# Altium integrated library National Semiconductor Amplifier.IntLib: 1665 symbols (part 35 of 44)
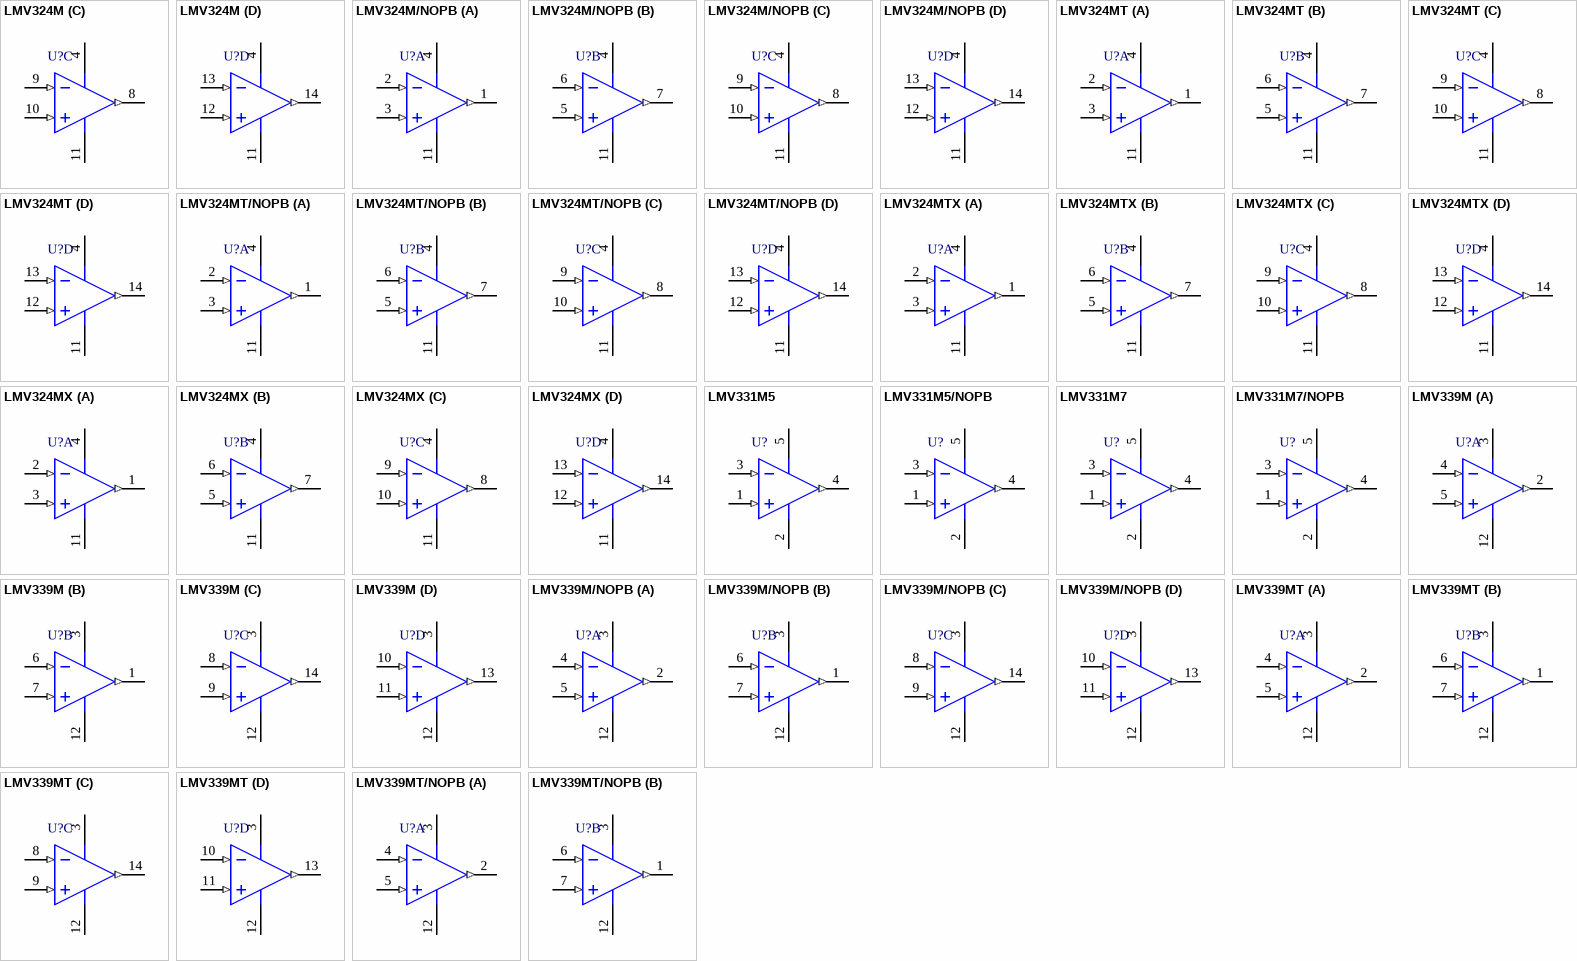
[diagram p118: symbols LMV324M to LMV339MT/NOPB]

## LMV339MT
designator U?
Quad General Purpose, Low Voltage, Tiny Pack Comparator, 14-pin TSSOP; PartNumber: LMV339MT; Manufacturer: National Semiconductor; PackageTopMarking: NSUZXYTT*LMV339*MT; PowerWise: Y; CompType: Amplifiers; DatasheetVersion: May-2007; PackageVersion: revD, Jun-2003; PackageReference: MTC14; PackageDescription: Molded TSSOP, JEDEC, 5 x 4.4 x 0.9mm Body, 14 Lead, 0.65mm Pitch; RoHS: N; PinCount: 14; High-Reliability: Y; Code_JEDEC: MO-153-AB-1; ComponentLink1Description: Manufacturer URL; ComponentLink1URL: http://www.national.com/; ComponentLink2Description: LMV339 Datasheet; ComponentLink2URL: http://www.national.com/ds/LM/LMV339.pdf; ComponentLink3Description: LMV339 Web Page; ComponentLink3URL: http://www.national.com/pf/LM/LMV339.html; ComponentLink4Description: MTC14 Package Page; ComponentLink4URL: http://www.national.com/packaging/folders/mtc14.html
footprint MTC14_N (TSOP, 14-Leads, Body 5x4.4mm, Pitch 0.65mm, IPC Medium Density)
footprint MTC14_L (TSOP, 14-Leads, Body 5x4.4mm, Pitch 0.65mm, IPC High Density)
footprint MTC14_M (TSOP, 14-Leads, Body 5x4.4mm, Pitch 0.65mm, IPC Low Density)
pins on every part: 3 V+ (power), 12 V- (power)
part A pins: 2 OUTA (out), 4 INA- (in), 5 INA+ (in)
part B pins: 1 OUTB (out), 6 INB- (in), 7 INB+ (in)
part C pins: 8 INC- (in), 9 INC+ (in), 14 OUTC (out)
part D pins: 10 IND- (in), 11 IND+ (in), 13 OUTD (out)

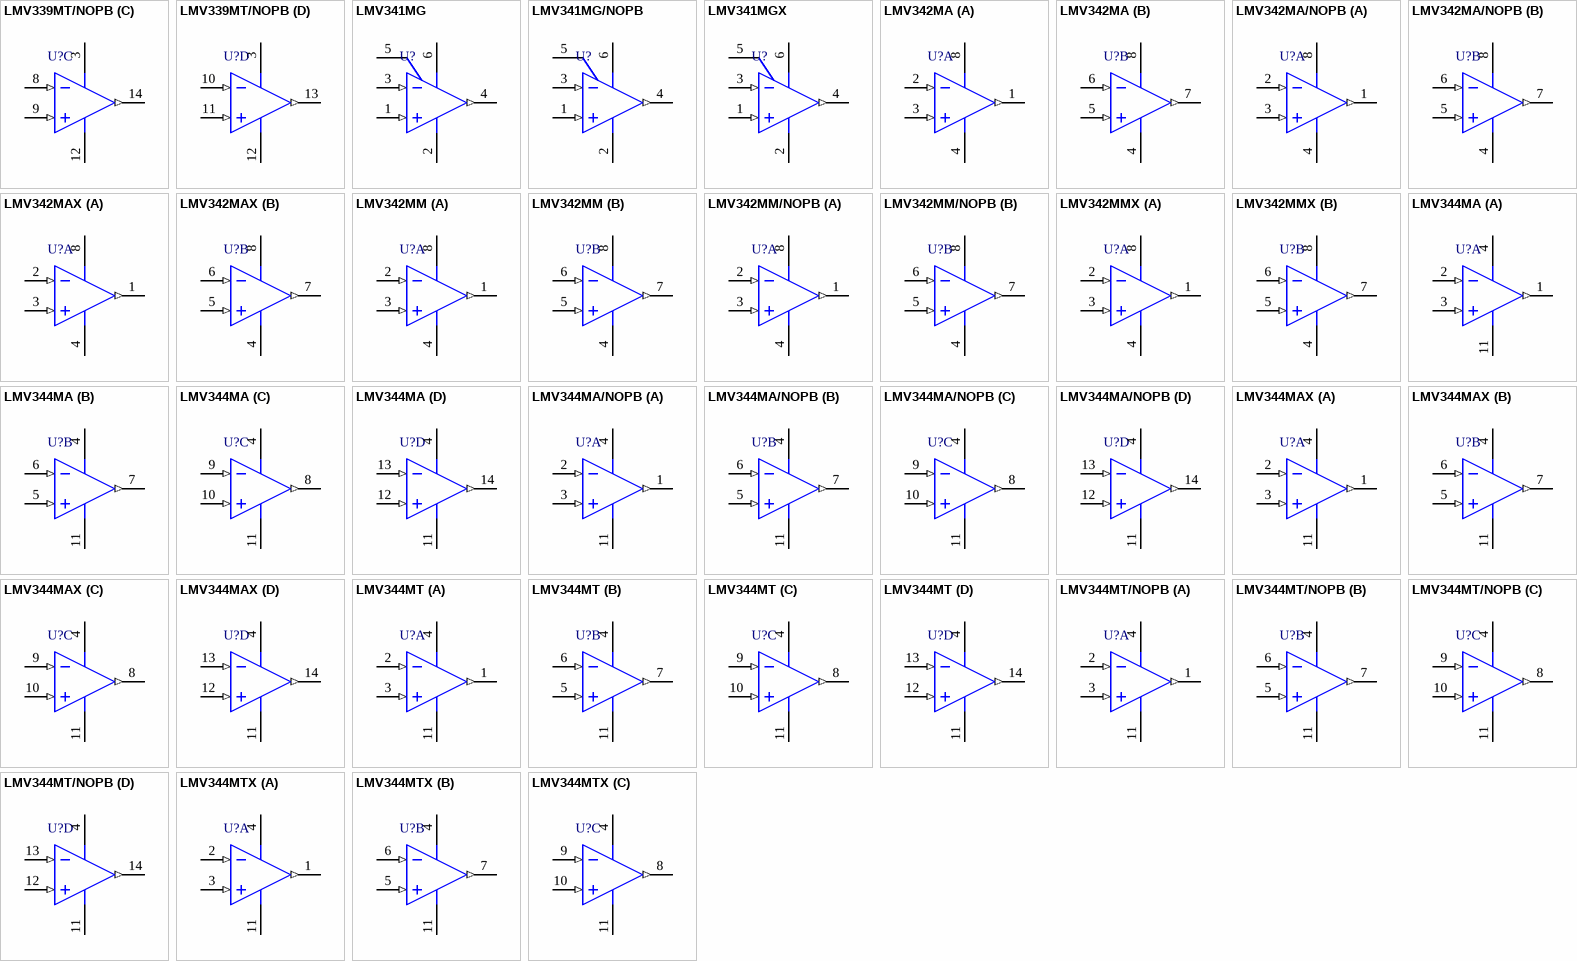
[diagram p67: symbols LMV339MT/NOPB to LMV344MTX]

## LMV339MT/NOPB
designator U?
Quad General Purpose, Low Voltage, Tiny Pack Comparator, 14-pin TSSOP, Pb-Free; PartNumber: LMV339MT/NOPB; Manufacturer: National Semiconductor; PackageTopMarking: NSUZXYTT*LMV339*MT; PowerWise: Y; CompType: Amplifiers; DatasheetVersion: May-2007; PackageVersion: revD, Jun-2003; PackageReference: MTC14; PackageDescription: Molded TSSOP, JEDEC, 5 x 4.4 x 0.9mm Body, 14 Lead, 0.65mm Pitch; RoHS: Y; PinCount: 14; High-Reliability: Y; Code_JEDEC: MO-153-AB-1; ComponentLink1Description: Manufacturer URL; ComponentLink1URL: http://www.national.com/; ComponentLink2Description: LMV339 Datasheet; ComponentLink2URL: http://www.national.com/ds/LM/LMV339.pdf; ComponentLink3Description: LMV339 Web Page; ComponentLink3URL: http://www.national.com/pf/LM/LMV339.html; ComponentLink4Description: MTC14 Package Page; ComponentLink4URL: http://www.national.com/packaging/folders/mtc14.html
footprint MTC14_N (TSOP, 14-Leads, Body 5x4.4mm, Pitch 0.65mm, IPC Medium Density)
footprint MTC14_L (TSOP, 14-Leads, Body 5x4.4mm, Pitch 0.65mm, IPC High Density)
footprint MTC14_M (TSOP, 14-Leads, Body 5x4.4mm, Pitch 0.65mm, IPC Low Density)
pins on every part: 3 V+ (power), 12 V- (power)
part A pins: 2 OUTA (out), 4 INA- (in), 5 INA+ (in)
part B pins: 1 OUTB (out), 6 INB- (in), 7 INB+ (in)
part C pins: 8 INC- (in), 9 INC+ (in), 14 OUTC (out)
part D pins: 10 IND- (in), 11 IND+ (in), 13 OUTD (out)

## LMV341MG
designator U?
Single with Shutdown/Dual/Quad General Purpose, 2.7V, Rail-to-Rail Output, 125°C, Operational Amplifiers, 6-pin SC-70; PartNumber: LMV341MG; Manufacturer: National Semiconductor; PackageTopMarking: A78*XTT; PowerWise: N; High-Reliability: Y; DatasheetVersion: Jan-2008; PackageVersion: revB, Jun-2007; PackageReference: MAA06A; PackageDescription: Molded SC-70, 2 x 1.25 x .9mm, 6 Lead, 0.65mm Pitch; RoHS: N; PinCount: 6; CompType: Amplifiers; ComponentLink1Description: Manufacturer URL; ComponentLink1URL: http://www.national.com/; ComponentLink2Description: LMV341 Datasheet; ComponentLink2URL: http://www.national.com/ds/LM/LMV341.pdf; ComponentLink3Description: LMV341 Web Page; ComponentLink3URL: http://www.national.com/pf/LM/LMV341.html; ComponentLink4Description: MAA06A Package Page; ComponentLink4URL: http://www.national.com/packaging/folders/maa06a.html
footprint MAA06A_N (SOT363, 6-Leads, Body 2x1.3mm, Pitch 0.65mm, Lead Span 2.1mm, IPC Medium Density)
footprint MAA06A_L (SOT363, 6-Leads, Body 2x1.3mm, Pitch 0.65mm, Lead Span 2.1mm, IPC High Density)
footprint MAA06A_M (SOT363, 6-Leads, Body 2x1.3mm, Pitch 0.65mm, Lead Span 2.1mm, IPC Low Density)
pins: 1 IN+ (in), 2 GND (power), 3 IN- (in), 4 OUT (out), 5 ~{SHDN}, 6 V+ (power)

## LMV341MG/NOPB
designator U?
Single with Shutdown/Dual/Quad General Purpose, 2.7V, Rail-to-Rail Output, 125°C, Operational Amplifiers, 6-pin SC-70, Pb-Free; PartNumber: LMV341MG/NOPB; Manufacturer: National Semiconductor; PackageTopMarking: A78*XTT; PowerWise: N; High-Reliability: Y; DatasheetVersion: Jan-2008; PackageVersion: revB, Jun-2007; PackageReference: MAA06A; PackageDescription: Molded SC-70, 2 x 1.25 x .9mm, 6 Lead, 0.65mm Pitch; RoHS: Y; PinCount: 6; CompType: Amplifiers; ComponentLink1Description: Manufacturer URL; ComponentLink1URL: http://www.national.com/; ComponentLink2Description: LMV341 Datasheet; ComponentLink2URL: http://www.national.com/ds/LM/LMV341.pdf; ComponentLink3Description: LMV341 Web Page; ComponentLink3URL: http://www.national.com/pf/LM/LMV341.html; ComponentLink4Description: MAA06A Package Page; ComponentLink4URL: http://www.national.com/packaging/folders/maa06a.html
footprint MAA06A_N (SOT363, 6-Leads, Body 2x1.3mm, Pitch 0.65mm, Lead Span 2.1mm, IPC Medium Density)
footprint MAA06A_L (SOT363, 6-Leads, Body 2x1.3mm, Pitch 0.65mm, Lead Span 2.1mm, IPC High Density)
footprint MAA06A_M (SOT363, 6-Leads, Body 2x1.3mm, Pitch 0.65mm, Lead Span 2.1mm, IPC Low Density)
pins: 1 IN+ (in), 2 GND (power), 3 IN- (in), 4 OUT (out), 5 ~{SHDN}, 6 V+ (power)

## LMV341MGX
designator U?
Single with Shutdown/Dual/Quad General Purpose, 2.7V, Rail-to-Rail Output, 125°C, Operational Amplifiers, 6-pin SC-70; PartNumber: LMV341MGX; Manufacturer: National Semiconductor; PackageTopMarking: A78*XTT; PowerWise: N; High-Reliability: Y; DatasheetVersion: Jan-2008; PackageVersion: revB, Jun-2007; PackageReference: MAA06A; PackageDescription: Molded SC-70, 2 x 1.25 x .9mm, 6 Lead, 0.65mm Pitch; RoHS: N; PinCount: 6; CompType: Amplifiers; ComponentLink1Description: Manufacturer URL; ComponentLink1URL: http://www.national.com/; ComponentLink2Description: LMV341 Datasheet; ComponentLink2URL: http://www.national.com/ds/LM/LMV341.pdf; ComponentLink3Description: LMV341 Web Page; ComponentLink3URL: http://www.national.com/pf/LM/LMV341.html; ComponentLink4Description: MAA06A Package Page; ComponentLink4URL: http://www.national.com/packaging/folders/maa06a.html
footprint MAA06A_N (SOT363, 6-Leads, Body 2x1.3mm, Pitch 0.65mm, Lead Span 2.1mm, IPC Medium Density)
footprint MAA06A_L (SOT363, 6-Leads, Body 2x1.3mm, Pitch 0.65mm, Lead Span 2.1mm, IPC High Density)
footprint MAA06A_M (SOT363, 6-Leads, Body 2x1.3mm, Pitch 0.65mm, Lead Span 2.1mm, IPC Low Density)
pins: 1 IN+ (in), 2 GND (power), 3 IN- (in), 4 OUT (out), 5 ~{SHDN}, 6 V+ (power)

## LMV342MA
designator U?
Single with Shutdown/Dual/Quad General Purpose, 2.7V, Rail-to-Rail Output, 125°C, Operational Amplifiers, 8-pin Narrow SOIC; PartNumber: LMV342MA; Manufacturer: National Semiconductor; PackageTopMarking: NSZXTT*LMV34*2MA; PowerWise: N; High-Reliability: Y; DatasheetVersion: Jan-2008; PackageVersion: revM, May-2009; PackageReference: M08A; PackageDescription: SOIC Narrow, 4.9 x 3.9 x 1.45mm, 8 Lead, 1.27mm Pitch; RoHS: N; PinCount: 8; CompType: Amplifiers; Code_JEDEC: MS-012-AA; Code_IPC: SOIC127P600-8; ComponentLink1Description: Manufacturer URL; ComponentLink1URL: http://www.national.com/; ComponentLink2Description: LMV342 Datasheet; ComponentLink2URL: http://www.national.com/ds/LM/LMV342.pdf; ComponentLink3Description: LMV342 Web Page; ComponentLink3URL: http://www.national.com/pf/LM/LMV342.html; ComponentLink4Description: M08A Package Page; ComponentLink4URL: http://www.national.com/packaging/folders/m08a.html
footprint M08A_N (SOIC, 8-Leads, Body 4.9x3.9mm, Pitch 1.27mm, IPC Medium Density)
footprint M08A_L (SOIC, 8-Leads, Body 4.9x3.9mm, Pitch 1.27mm, IPC High Density)
footprint M08A_M (SOIC, 8-Leads, Body 4.9x3.9mm, Pitch 1.27mm, IPC Low Density)
pins on every part: 4 V- (power), 8 V+ (power)
part A pins: 1 OUTA (out), 2 INA- (in), 3 INA+ (in)
part B pins: 5 INB+ (in), 6 INB- (in), 7 OUTB (out)

## LMV342MA/NOPB
designator U?
Single with Shutdown/Dual/Quad General Purpose, 2.7V, Rail-to-Rail Output, 125°C, Operational Amplifiers, 8-pin Narrow SOIC, Pb-Free; PartNumber: LMV342MA/NOPB; Manufacturer: National Semiconductor; PackageTopMarking: NSZXTT*LMV34*2MA; PowerWise: N; High-Reliability: Y; DatasheetVersion: Jan-2008; PackageVersion: revM, May-2009; PackageReference: M08A; PackageDescription: SOIC Narrow, 4.9 x 3.9 x 1.45mm, 8 Lead, 1.27mm Pitch; RoHS: Y; PinCount: 8; CompType: Amplifiers; Code_JEDEC: MS-012-AA; Code_IPC: SOIC127P600-8; ComponentLink1Description: Manufacturer URL; ComponentLink1URL: http://www.national.com/; ComponentLink2Description: LMV342 Datasheet; ComponentLink2URL: http://www.national.com/ds/LM/LMV342.pdf; ComponentLink3Description: LMV342 Web Page; ComponentLink3URL: http://www.national.com/pf/LM/LMV342.html; ComponentLink4Description: M08A Package Page; ComponentLink4URL: http://www.national.com/packaging/folders/m08a.html
footprint M08A_N (SOIC, 8-Leads, Body 4.9x3.9mm, Pitch 1.27mm, IPC Medium Density)
footprint M08A_L (SOIC, 8-Leads, Body 4.9x3.9mm, Pitch 1.27mm, IPC High Density)
footprint M08A_M (SOIC, 8-Leads, Body 4.9x3.9mm, Pitch 1.27mm, IPC Low Density)
pins on every part: 4 V- (power), 8 V+ (power)
part A pins: 1 OUTA (out), 2 INA- (in), 3 INA+ (in)
part B pins: 5 INB+ (in), 6 INB- (in), 7 OUTB (out)

## LMV342MAX
designator U?
Single with Shutdown/Dual/Quad General Purpose, 2.7V, Rail-to-Rail Output, 125°C, Operational Amplifiers, 8-pin Narrow SOIC; PartNumber: LMV342MAX; Manufacturer: National Semiconductor; PackageTopMarking: NSZXTT*LMV34*2MA; PowerWise: N; High-Reliability: Y; DatasheetVersion: Jan-2008; PackageVersion: revM, May-2009; PackageReference: M08A; PackageDescription: SOIC Narrow, 4.9 x 3.9 x 1.45mm, 8 Lead, 1.27mm Pitch; RoHS: N; PinCount: 8; CompType: Amplifiers; Code_JEDEC: MS-012-AA; Code_IPC: SOIC127P600-8; ComponentLink1Description: Manufacturer URL; ComponentLink1URL: http://www.national.com/; ComponentLink2Description: LMV342 Datasheet; ComponentLink2URL: http://www.national.com/ds/LM/LMV342.pdf; ComponentLink3Description: LMV342 Web Page; ComponentLink3URL: http://www.national.com/pf/LM/LMV342.html; ComponentLink4Description: M08A Package Page; ComponentLink4URL: http://www.national.com/packaging/folders/m08a.html
footprint M08A_N (SOIC, 8-Leads, Body 4.9x3.9mm, Pitch 1.27mm, IPC Medium Density)
footprint M08A_L (SOIC, 8-Leads, Body 4.9x3.9mm, Pitch 1.27mm, IPC High Density)
footprint M08A_M (SOIC, 8-Leads, Body 4.9x3.9mm, Pitch 1.27mm, IPC Low Density)
pins on every part: 4 V- (power), 8 V+ (power)
part A pins: 1 OUTA (out), 2 INA- (in), 3 INA+ (in)
part B pins: 5 INB+ (in), 6 INB- (in), 7 OUTB (out)

## LMV342MM
designator U?
Single with Shutdown/Dual/Quad General Purpose, 2.7V, Rail-to-Rail Output, 125°C, Operational Amplifiers, 8-pin Mini SOIC; PartNumber: LMV342MM; Manufacturer: National Semiconductor; PackageTopMarking: ZXTT*A82A; PowerWise: N; High-Reliability: Y; DatasheetVersion: Jan-2008; PackageVersion: revF, Apr-2008; PackageReference: MUA08A; PackageDescription: MINI SOIC, .118 x .118 x .034in, 8 Lead, .0256in Pitch; RoHS: N; PinCount: 8; CompType: Amplifiers; Code_JEDEC: MO-187-AA; ComponentLink1Description: Manufacturer URL; ComponentLink1URL: http://www.national.com/; ComponentLink2Description: LMV342 Datasheet; ComponentLink2URL: http://www.national.com/ds/LM/LMV342.pdf; ComponentLink3Description: LMV342 Web Page; ComponentLink3URL: http://www.national.com/pf/LM/LMV342.html; ComponentLink4Description: MUA08A Package Page; ComponentLink4URL: http://www.national.com/packaging/folders/mua08a.html
footprint MUA08A_N (TSOP, 8-Leads, Body 3x3mm, Pitch 0.65mm, IPC Medium Density)
footprint MUA08A_L (TSOP, 8-Leads, Body 3x3mm, Pitch 0.65mm, IPC High Density)
footprint MUA08A_M (TSOP, 8-Leads, Body 3x3mm, Pitch 0.65mm, IPC Low Density)
pins on every part: 4 V- (power), 8 V+ (power)
part A pins: 1 OUTA (out), 2 INA- (in), 3 INA+ (in)
part B pins: 5 INB+ (in), 6 INB- (in), 7 OUTB (out)

## LMV342MM/NOPB
designator U?
Single with Shutdown/Dual/Quad General Purpose, 2.7V, Rail-to-Rail Output, 125°C, Operational Amplifiers, 8-pin Mini SOIC, Pb-Free; PartNumber: LMV342MM/NOPB; Manufacturer: National Semiconductor; PackageTopMarking: ZXTT*A82A; PowerWise: N; High-Reliability: Y; DatasheetVersion: Jan-2008; PackageVersion: revF, Apr-2008; PackageReference: MUA08A; PackageDescription: MINI SOIC, .118 x .118 x .034in, 8 Lead, .0256in Pitch; RoHS: Y; PinCount: 8; CompType: Amplifiers; Code_JEDEC: MO-187-AA; ComponentLink1Description: Manufacturer URL; ComponentLink1URL: http://www.national.com/; ComponentLink2Description: LMV342 Datasheet; ComponentLink2URL: http://www.national.com/ds/LM/LMV342.pdf; ComponentLink3Description: LMV342 Web Page; ComponentLink3URL: http://www.national.com/pf/LM/LMV342.html; ComponentLink4Description: MUA08A Package Page; ComponentLink4URL: http://www.national.com/packaging/folders/mua08a.html
footprint MUA08A_N (TSOP, 8-Leads, Body 3x3mm, Pitch 0.65mm, IPC Medium Density)
footprint MUA08A_L (TSOP, 8-Leads, Body 3x3mm, Pitch 0.65mm, IPC High Density)
footprint MUA08A_M (TSOP, 8-Leads, Body 3x3mm, Pitch 0.65mm, IPC Low Density)
pins on every part: 4 V- (power), 8 V+ (power)
part A pins: 1 OUTA (out), 2 INA- (in), 3 INA+ (in)
part B pins: 5 INB+ (in), 6 INB- (in), 7 OUTB (out)

## LMV342MMX
designator U?
Single with Shutdown/Dual/Quad General Purpose, 2.7V, Rail-to-Rail Output, 125°C, Operational Amplifiers, 8-pin Mini SOIC; PartNumber: LMV342MMX; Manufacturer: National Semiconductor; PackageTopMarking: ZXTT*A82A; PowerWise: N; High-Reliability: Y; DatasheetVersion: Jan-2008; PackageVersion: revF, Apr-2008; PackageReference: MUA08A; PackageDescription: MINI SOIC, .118 x .118 x .034in, 8 Lead, .0256in Pitch; RoHS: N; PinCount: 8; CompType: Amplifiers; Code_JEDEC: MO-187-AA; ComponentLink1Description: Manufacturer URL; ComponentLink1URL: http://www.national.com/; ComponentLink2Description: LMV342 Datasheet; ComponentLink2URL: http://www.national.com/ds/LM/LMV342.pdf; ComponentLink3Description: LMV342 Web Page; ComponentLink3URL: http://www.national.com/pf/LM/LMV342.html; ComponentLink4Description: MUA08A Package Page; ComponentLink4URL: http://www.national.com/packaging/folders/mua08a.html
footprint MUA08A_N (TSOP, 8-Leads, Body 3x3mm, Pitch 0.65mm, IPC Medium Density)
footprint MUA08A_L (TSOP, 8-Leads, Body 3x3mm, Pitch 0.65mm, IPC High Density)
footprint MUA08A_M (TSOP, 8-Leads, Body 3x3mm, Pitch 0.65mm, IPC Low Density)
pins on every part: 4 V- (power), 8 V+ (power)
part A pins: 1 OUTA (out), 2 INA- (in), 3 INA+ (in)
part B pins: 5 INB+ (in), 6 INB- (in), 7 OUTB (out)

## LMV344MA
designator U?
Single with Shutdown/Dual/Quad General Purpose, 2.7V,Rail-to-Rail Output, 125°C, Operational Amplifiers, 14-pin Narrow SOIC; PartNumber: LMV344MA; Manufacturer: National Semiconductor; PackageTopMarking: NSUZXYTTE#*LMV344MA; PowerWise: N; High-Reliability: Y; DatasheetVersion: Jan-2008; PackageVersion: revJ, Jan-1996; PackageReference: M14A; PackageDescription: Molded Package S.O., .150in Wide, 14 Lead; RoHS: N; PinCount: 14; CompType: Amplifiers; Code_JEDEC: MS-012AB; Code_IPC: SOIC127P600-14; ComponentLink1Description: Manufacturer URL; ComponentLink1URL: http://www.national.com/; ComponentLink2Description: LMV344 Datasheet; ComponentLink2URL: http://www.national.com/ds/LM/LMV344.pdf; ComponentLink3Description: LMV344 Web Page; ComponentLink3URL: http://www.national.com/pf/LM/LMV344.html; ComponentLink4Description: M14A Package Page; ComponentLink4URL: http://www.national.com/packaging/folders/m14a.html
footprint M14A_N (SOIC, 14-Leads, Body 8.6x3.9mm, Pitch 1.27mm, IPC Medium Density)
footprint M14A_L (SOIC, 14-Leads, Body 8.6x3.9mm, Pitch 1.27mm, IPC High Density)
footprint M14A_M (SOIC, 14-Leads, Body 8.6x3.9mm, Pitch 1.27mm, IPC Low Density)
pins on every part: 4 V+ (power), 11 V- (power)
part A pins: 1 OUTA (out), 2 INA- (in), 3 INA+ (in)
part B pins: 5 INB+ (in), 6 INB- (in), 7 OUTB (out)
part C pins: 8 OUTC (out), 9 INC- (in), 10 INC+ (in)
part D pins: 12 IND+ (in), 13 IND- (in), 14 OUTD (out)

## LMV344MA/NOPB
designator U?
Single with Shutdown/Dual/Quad General Purpose, 2.7V,Rail-to-Rail Output, 125°C, Operational Amplifiers, 14-pin Narrow SOIC, Pb-Free; PartNumber: LMV344MA/NOPB; Manufacturer: National Semiconductor; PackageTopMarking: NSUZXYTTE#*LMV344MA; PowerWise: N; High-Reliability: Y; DatasheetVersion: Jan-2008; PackageVersion: revJ, Jan-1996; PackageReference: M14A; PackageDescription: Molded Package S.O., .150in Wide, 14 Lead; RoHS: Y; PinCount: 14; CompType: Amplifiers; Code_JEDEC: MS-012AB; Code_IPC: SOIC127P600-14; ComponentLink1Description: Manufacturer URL; ComponentLink1URL: http://www.national.com/; ComponentLink2Description: LMV344 Datasheet; ComponentLink2URL: http://www.national.com/ds/LM/LMV344.pdf; ComponentLink3Description: LMV344 Web Page; ComponentLink3URL: http://www.national.com/pf/LM/LMV344.html; ComponentLink4Description: M14A Package Page; ComponentLink4URL: http://www.national.com/packaging/folders/m14a.html
footprint M14A_N (SOIC, 14-Leads, Body 8.6x3.9mm, Pitch 1.27mm, IPC Medium Density)
footprint M14A_L (SOIC, 14-Leads, Body 8.6x3.9mm, Pitch 1.27mm, IPC High Density)
footprint M14A_M (SOIC, 14-Leads, Body 8.6x3.9mm, Pitch 1.27mm, IPC Low Density)
pins on every part: 4 V+ (power), 11 V- (power)
part A pins: 1 OUTA (out), 2 INA- (in), 3 INA+ (in)
part B pins: 5 INB+ (in), 6 INB- (in), 7 OUTB (out)
part C pins: 8 OUTC (out), 9 INC- (in), 10 INC+ (in)
part D pins: 12 IND+ (in), 13 IND- (in), 14 OUTD (out)

## LMV344MAX
designator U?
Single with Shutdown/Dual/Quad General Purpose, 2.7V,Rail-to-Rail Output, 125°C, Operational Amplifiers, 14-pin Narrow SOIC; PartNumber: LMV344MAX; Manufacturer: National Semiconductor; PackageTopMarking: NSUZXYTTE#*LMV344MA; PowerWise: N; High-Reliability: Y; DatasheetVersion: Jan-2008; PackageVersion: revJ, Jan-1996; PackageReference: M14A; PackageDescription: Molded Package S.O., .150in Wide, 14 Lead; RoHS: N; PinCount: 14; CompType: Amplifiers; Code_JEDEC: MS-012AB; Code_IPC: SOIC127P600-14; ComponentLink1Description: Manufacturer URL; ComponentLink1URL: http://www.national.com/; ComponentLink2Description: LMV344 Datasheet; ComponentLink2URL: http://www.national.com/ds/LM/LMV344.pdf; ComponentLink3Description: LMV344 Web Page; ComponentLink3URL: http://www.national.com/pf/LM/LMV344.html; ComponentLink4Description: M14A Package Page; ComponentLink4URL: http://www.national.com/packaging/folders/m14a.html
footprint M14A_N (SOIC, 14-Leads, Body 8.6x3.9mm, Pitch 1.27mm, IPC Medium Density)
footprint M14A_L (SOIC, 14-Leads, Body 8.6x3.9mm, Pitch 1.27mm, IPC High Density)
footprint M14A_M (SOIC, 14-Leads, Body 8.6x3.9mm, Pitch 1.27mm, IPC Low Density)
pins on every part: 4 V+ (power), 11 V- (power)
part A pins: 1 OUTA (out), 2 INA- (in), 3 INA+ (in)
part B pins: 5 INB+ (in), 6 INB- (in), 7 OUTB (out)
part C pins: 8 OUTC (out), 9 INC- (in), 10 INC+ (in)
part D pins: 12 IND+ (in), 13 IND- (in), 14 OUTD (out)

## LMV344MT
designator U?
Single with Shutdown/Dual/Quad General Purpose, 2.7V,Rail-to-Rail Output, 125°C, Operational Amplifiers, 14-pin TSSOP; PartNumber: LMV344MT; Manufacturer: National Semiconductor; PackageTopMarking: NSZXYTT*LMV34*4MT; PowerWise: N; High-Reliability: Y; DatasheetVersion: Jan-2008; PackageVersion: revD, Jun-2003; PackageReference: MTC14; PackageDescription: Molded TSSOP, JEDEC, 5 x 4.4 x 0.9mm Body, 14 Lead, 0.65mm Pitch; RoHS: N; PinCount: 14; CompType: Amplifiers; Code_JEDEC: MO-153-AB-1; ComponentLink1Description: Manufacturer URL; ComponentLink1URL: http://www.national.com/; ComponentLink2Description: LMV344 Datasheet; ComponentLink2URL: http://www.national.com/ds/LM/LMV344.pdf; ComponentLink3Description: LMV344 Web Page; ComponentLink3URL: http://www.national.com/pf/LM/LMV344.html; ComponentLink4Description: MTC14 Package Page; ComponentLink4URL: http://www.national.com/packaging/folders/mtc14.html
footprint MTC14_N (TSOP, 14-Leads, Body 5x4.4mm, Pitch 0.65mm, IPC Medium Density)
footprint MTC14_L (TSOP, 14-Leads, Body 5x4.4mm, Pitch 0.65mm, IPC High Density)
footprint MTC14_M (TSOP, 14-Leads, Body 5x4.4mm, Pitch 0.65mm, IPC Low Density)
pins on every part: 4 V+ (power), 11 V- (power)
part A pins: 1 OUTA (out), 2 INA- (in), 3 INA+ (in)
part B pins: 5 INB+ (in), 6 INB- (in), 7 OUTB (out)
part C pins: 8 OUTC (out), 9 INC- (in), 10 INC+ (in)
part D pins: 12 IND+ (in), 13 IND- (in), 14 OUTD (out)

## LMV344MT/NOPB
designator U?
Single with Shutdown/Dual/Quad General Purpose, 2.7V,Rail-to-Rail Output, 125°C, Operational Amplifiers, 14-pin TSSOP, Pb-Free; PartNumber: LMV344MT/NOPB; Manufacturer: National Semiconductor; PackageTopMarking: NSZXYTT*LMV34*4MT; PowerWise: N; High-Reliability: Y; DatasheetVersion: Jan-2008; PackageVersion: revD, Jun-2003; PackageReference: MTC14; PackageDescription: Molded TSSOP, JEDEC, 5 x 4.4 x 0.9mm Body, 14 Lead, 0.65mm Pitch; RoHS: Y; PinCount: 14; CompType: Amplifiers; Code_JEDEC: MO-153-AB-1; ComponentLink1Description: Manufacturer URL; ComponentLink1URL: http://www.national.com/; ComponentLink2Description: LMV344 Datasheet; ComponentLink2URL: http://www.national.com/ds/LM/LMV344.pdf; ComponentLink3Description: LMV344 Web Page; ComponentLink3URL: http://www.national.com/pf/LM/LMV344.html; ComponentLink4Description: MTC14 Package Page; ComponentLink4URL: http://www.national.com/packaging/folders/mtc14.html
footprint MTC14_N (TSOP, 14-Leads, Body 5x4.4mm, Pitch 0.65mm, IPC Medium Density)
footprint MTC14_L (TSOP, 14-Leads, Body 5x4.4mm, Pitch 0.65mm, IPC High Density)
footprint MTC14_M (TSOP, 14-Leads, Body 5x4.4mm, Pitch 0.65mm, IPC Low Density)
pins on every part: 4 V+ (power), 11 V- (power)
part A pins: 1 OUTA (out), 2 INA- (in), 3 INA+ (in)
part B pins: 5 INB+ (in), 6 INB- (in), 7 OUTB (out)
part C pins: 8 OUTC (out), 9 INC- (in), 10 INC+ (in)
part D pins: 12 IND+ (in), 13 IND- (in), 14 OUTD (out)

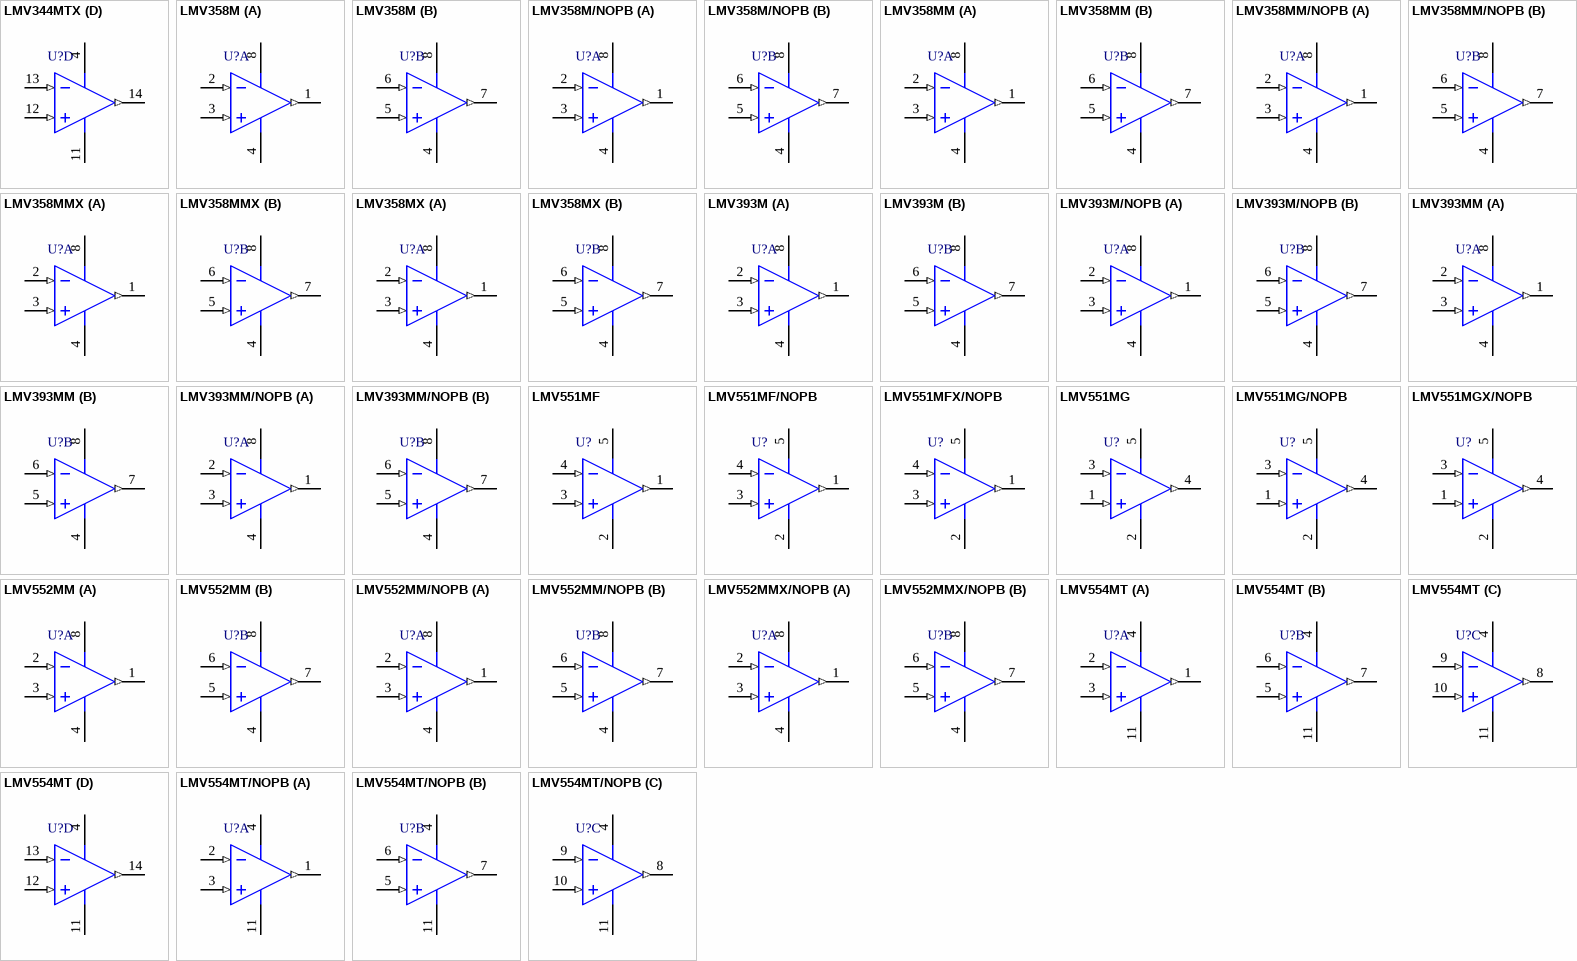
[diagram p68: symbols LMV344MTX to LMV554MT/NOPB]

## LMV344MTX
designator U?
Single with Shutdown/Dual/Quad General Purpose, 2.7V,Rail-to-Rail Output, 125°C, Operational Amplifiers, 14-pin TSSOP; PartNumber: LMV344MTX; Manufacturer: National Semiconductor; PackageTopMarking: NSZXYTT*LMV34*4MT; PowerWise: N; High-Reliability: Y; DatasheetVersion: Jan-2008; PackageVersion: revD, Jun-2003; PackageReference: MTC14; PackageDescription: Molded TSSOP, JEDEC, 5 x 4.4 x 0.9mm Body, 14 Lead, 0.65mm Pitch; RoHS: N; PinCount: 14; CompType: Amplifiers; Code_JEDEC: MO-153-AB-1; ComponentLink1Description: Manufacturer URL; ComponentLink1URL: http://www.national.com/; ComponentLink2Description: LMV344 Datasheet; ComponentLink2URL: http://www.national.com/ds/LM/LMV344.pdf; ComponentLink3Description: LMV344 Web Page; ComponentLink3URL: http://www.national.com/pf/LM/LMV344.html; ComponentLink4Description: MTC14 Package Page; ComponentLink4URL: http://www.national.com/packaging/folders/mtc14.html
footprint MTC14_N (TSOP, 14-Leads, Body 5x4.4mm, Pitch 0.65mm, IPC Medium Density)
footprint MTC14_L (TSOP, 14-Leads, Body 5x4.4mm, Pitch 0.65mm, IPC High Density)
footprint MTC14_M (TSOP, 14-Leads, Body 5x4.4mm, Pitch 0.65mm, IPC Low Density)
pins on every part: 4 V+ (power), 11 V- (power)
part A pins: 1 OUTA (out), 2 INA- (in), 3 INA+ (in)
part B pins: 5 INB+ (in), 6 INB- (in), 7 OUTB (out)
part C pins: 8 OUTC (out), 9 INC- (in), 10 INC+ (in)
part D pins: 12 IND+ (in), 13 IND- (in), 14 OUTD (out)

## LMV358M
designator U?
General Purpose, Low Voltage, Rail-to-Rail Output Operational Amplifiers, 8-pin Narrow SOIC; PartNumber: LMV358M; Manufacturer: National Semiconductor; PackageTopMarking: NSZXTT*LMV*358M; PowerWise: N; High-Reliability: Y; DatasheetVersion: Sep-2009; PackageVersion: revM, May-2009; PackageReference: M08A; PackageDescription: SOIC Narrow, 4.9 x 3.9 x 1.45mm, 8 Lead, 1.27mm Pitch; RoHS: N; PinCount: 8; CompType: Amplifiers; Code_JEDEC: MS-012-AA; Code_IPC: SOIC127P600-8; ComponentLink1Description: Manufacturer URL; ComponentLink1URL: http://www.national.com/; ComponentLink2Description: LMV358 Datasheet; ComponentLink2URL: http://www.national.com/ds/LM/LMV358.pdf; ComponentLink3Description: LMV358 Web Page; ComponentLink3URL: http://www.national.com/pf/LM/LMV358.html; ComponentLink4Description: M08A Package Page; ComponentLink4URL: http://www.national.com/packaging/folders/m08a.html
footprint M08A_N (SOIC, 8-Leads, Body 4.9x3.9mm, Pitch 1.27mm, IPC Medium Density)
footprint M08A_L (SOIC, 8-Leads, Body 4.9x3.9mm, Pitch 1.27mm, IPC High Density)
footprint M08A_M (SOIC, 8-Leads, Body 4.9x3.9mm, Pitch 1.27mm, IPC Low Density)
pins on every part: 4 V- (power), 8 V+ (power)
part A pins: 1 OUTA (out), 2 INA- (in), 3 INA+ (in)
part B pins: 5 INB+ (in), 6 INB- (in), 7 OUTB (out)

## LMV358M/NOPB
designator U?
General Purpose, Low Voltage, Rail-to-Rail Output Operational Amplifiers, 8-pin Narrow SOIC, Pb-Free; PartNumber: LMV358M/NOPB; Manufacturer: National Semiconductor; PackageTopMarking: NSZXTT*LMV*358M; PowerWise: N; High-Reliability: Y; DatasheetVersion: Sep-2009; PackageVersion: revM, May-2009; PackageReference: M08A; PackageDescription: SOIC Narrow, 4.9 x 3.9 x 1.45mm, 8 Lead, 1.27mm Pitch; RoHS: Y; PinCount: 8; CompType: Amplifiers; Code_JEDEC: MS-012-AA; Code_IPC: SOIC127P600-8; ComponentLink1Description: Manufacturer URL; ComponentLink1URL: http://www.national.com/; ComponentLink2Description: LMV358 Datasheet; ComponentLink2URL: http://www.national.com/ds/LM/LMV358.pdf; ComponentLink3Description: LMV358 Web Page; ComponentLink3URL: http://www.national.com/pf/LM/LMV358.html; ComponentLink4Description: M08A Package Page; ComponentLink4URL: http://www.national.com/packaging/folders/m08a.html
footprint M08A_N (SOIC, 8-Leads, Body 4.9x3.9mm, Pitch 1.27mm, IPC Medium Density)
footprint M08A_L (SOIC, 8-Leads, Body 4.9x3.9mm, Pitch 1.27mm, IPC High Density)
footprint M08A_M (SOIC, 8-Leads, Body 4.9x3.9mm, Pitch 1.27mm, IPC Low Density)
pins on every part: 4 V- (power), 8 V+ (power)
part A pins: 1 OUTA (out), 2 INA- (in), 3 INA+ (in)
part B pins: 5 INB+ (in), 6 INB- (in), 7 OUTB (out)

## LMV358MM
designator U?
General Purpose, Low Voltage, Rail-to-Rail Output Operational Amplifiers, 8-pin Mini SOIC; PartNumber: LMV358MM; Manufacturer: National Semiconductor; PackageTopMarking: ZXTT*V358; PowerWise: N; High-Reliability: Y; DatasheetVersion: Sep-2009; PackageVersion: revF, Apr-2008; PackageReference: MUA08A; PackageDescription: MINI SOIC, .118 x .118 x .034in, 8 Lead, .0256in Pitch; RoHS: N; PinCount: 8; CompType: Amplifiers; Code_JEDEC: MO-187-AA; ComponentLink1Description: Manufacturer URL; ComponentLink1URL: http://www.national.com/; ComponentLink2Description: LMV358 Datasheet; ComponentLink2URL: http://www.national.com/ds/LM/LMV358.pdf; ComponentLink3Description: LMV358 Web Page; ComponentLink3URL: http://www.national.com/pf/LM/LMV358.html; ComponentLink4Description: MUA08A Package Page; ComponentLink4URL: http://www.national.com/packaging/folders/mua08a.html
footprint MUA08A_N (TSOP, 8-Leads, Body 3x3mm, Pitch 0.65mm, IPC Medium Density)
footprint MUA08A_L (TSOP, 8-Leads, Body 3x3mm, Pitch 0.65mm, IPC High Density)
footprint MUA08A_M (TSOP, 8-Leads, Body 3x3mm, Pitch 0.65mm, IPC Low Density)
pins on every part: 4 V- (power), 8 V+ (power)
part A pins: 1 OUTA (out), 2 INA- (in), 3 INA+ (in)
part B pins: 5 INB+ (in), 6 INB- (in), 7 OUTB (out)

## LMV358MM/NOPB
designator U?
General Purpose, Low Voltage, Rail-to-Rail Output Operational Amplifiers, 8-pin Mini SOIC, Pb-Free; PartNumber: LMV358MM/NOPB; Manufacturer: National Semiconductor; PackageTopMarking: ZXTT*V358; PowerWise: N; High-Reliability: Y; DatasheetVersion: Sep-2009; PackageVersion: revF, Apr-2008; PackageReference: MUA08A; PackageDescription: MINI SOIC, .118 x .118 x .034in, 8 Lead, .0256in Pitch; RoHS: Y; PinCount: 8; CompType: Amplifiers; Code_JEDEC: MO-187-AA; ComponentLink1Description: Manufacturer URL; ComponentLink1URL: http://www.national.com/; ComponentLink2Description: LMV358 Datasheet; ComponentLink2URL: http://www.national.com/ds/LM/LMV358.pdf; ComponentLink3Description: LMV358 Web Page; ComponentLink3URL: http://www.national.com/pf/LM/LMV358.html; ComponentLink4Description: MUA08A Package Page; ComponentLink4URL: http://www.national.com/packaging/folders/mua08a.html
footprint MUA08A_N (TSOP, 8-Leads, Body 3x3mm, Pitch 0.65mm, IPC Medium Density)
footprint MUA08A_L (TSOP, 8-Leads, Body 3x3mm, Pitch 0.65mm, IPC High Density)
footprint MUA08A_M (TSOP, 8-Leads, Body 3x3mm, Pitch 0.65mm, IPC Low Density)
pins on every part: 4 V- (power), 8 V+ (power)
part A pins: 1 OUTA (out), 2 INA- (in), 3 INA+ (in)
part B pins: 5 INB+ (in), 6 INB- (in), 7 OUTB (out)

## LMV358MMX
designator U?
General Purpose, Low Voltage, Rail-to-Rail Output Operational Amplifiers, 8-pin Mini SOIC; PartNumber: LMV358MMX; Manufacturer: National Semiconductor; PackageTopMarking: ZXTT*V358; PowerWise: N; High-Reliability: Y; DatasheetVersion: Sep-2009; PackageVersion: revF, Apr-2008; PackageReference: MUA08A; PackageDescription: MINI SOIC, .118 x .118 x .034in, 8 Lead, .0256in Pitch; RoHS: N; PinCount: 8; CompType: Amplifiers; Code_JEDEC: MO-187-AA; ComponentLink1Description: Manufacturer URL; ComponentLink1URL: http://www.national.com/; ComponentLink2Description: LMV358 Datasheet; ComponentLink2URL: http://www.national.com/ds/LM/LMV358.pdf; ComponentLink3Description: LMV358 Web Page; ComponentLink3URL: http://www.national.com/pf/LM/LMV358.html; ComponentLink4Description: MUA08A Package Page; ComponentLink4URL: http://www.national.com/packaging/folders/mua08a.html
footprint MUA08A_N (TSOP, 8-Leads, Body 3x3mm, Pitch 0.65mm, IPC Medium Density)
footprint MUA08A_L (TSOP, 8-Leads, Body 3x3mm, Pitch 0.65mm, IPC High Density)
footprint MUA08A_M (TSOP, 8-Leads, Body 3x3mm, Pitch 0.65mm, IPC Low Density)
pins on every part: 4 V- (power), 8 V+ (power)
part A pins: 1 OUTA (out), 2 INA- (in), 3 INA+ (in)
part B pins: 5 INB+ (in), 6 INB- (in), 7 OUTB (out)

## LMV358MX
designator U?
General Purpose, Low Voltage, Rail-to-Rail Output Operational Amplifiers, 8-pin Narrow SOIC; PartNumber: LMV358MX; Manufacturer: National Semiconductor; PackageTopMarking: NSZXTT*LMV*358M; PowerWise: N; High-Reliability: Y; DatasheetVersion: Sep-2009; PackageVersion: revM, May-2009; PackageReference: M08A; PackageDescription: SOIC Narrow, 4.9 x 3.9 x 1.45mm, 8 Lead, 1.27mm Pitch; RoHS: N; PinCount: 8; CompType: Amplifiers; Code_JEDEC: MS-012-AA; Code_IPC: SOIC127P600-8; ComponentLink1Description: Manufacturer URL; ComponentLink1URL: http://www.national.com/; ComponentLink2Description: LMV358 Datasheet; ComponentLink2URL: http://www.national.com/ds/LM/LMV358.pdf; ComponentLink3Description: LMV358 Web Page; ComponentLink3URL: http://www.national.com/pf/LM/LMV358.html; ComponentLink4Description: M08A Package Page; ComponentLink4URL: http://www.national.com/packaging/folders/m08a.html
footprint M08A_N (SOIC, 8-Leads, Body 4.9x3.9mm, Pitch 1.27mm, IPC Medium Density)
footprint M08A_L (SOIC, 8-Leads, Body 4.9x3.9mm, Pitch 1.27mm, IPC High Density)
footprint M08A_M (SOIC, 8-Leads, Body 4.9x3.9mm, Pitch 1.27mm, IPC Low Density)
pins on every part: 4 V- (power), 8 V+ (power)
part A pins: 1 OUTA (out), 2 INA- (in), 3 INA+ (in)
part B pins: 5 INB+ (in), 6 INB- (in), 7 OUTB (out)

## LMV393M
designator U?
Dual General Purpose, Low Voltage, Tiny Pack Comparator, 8-pin Narrow SOIC; PartNumber: LMV393M; Manufacturer: National Semiconductor; PackageTopMarking: NSZXTT*LMV*393M; PowerWise: Y; CompType: Amplifiers; DatasheetVersion: May-2007; PackageVersion: revM, May-2009; PackageReference: M08A; PackageDescription: SOIC Narrow, 4.9 x 3.9 x 1.45mm, 8 Lead, 1.27mm Pitch; RoHS: N; PinCount: 8; High-Reliability: Y; Code_JEDEC: MS-012-AA; Code_IPC: SOIC127P600-8; ComponentLink1Description: Manufacturer URL; ComponentLink1URL: http://www.national.com/; ComponentLink2Description: LMV393 Datasheet; ComponentLink2URL: http://www.national.com/ds/LM/LMV393.pdf; ComponentLink3Description: LMV393 Web Page; ComponentLink3URL: http://www.national.com/pf/LM/LMV393.html; ComponentLink4Description: M08A Package Page; ComponentLink4URL: http://www.national.com/packaging/folders/m08a.html
footprint M08A_N (SOIC, 8-Leads, Body 4.9x3.9mm, Pitch 1.27mm, IPC Medium Density)
footprint M08A_L (SOIC, 8-Leads, Body 4.9x3.9mm, Pitch 1.27mm, IPC High Density)
footprint M08A_M (SOIC, 8-Leads, Body 4.9x3.9mm, Pitch 1.27mm, IPC Low Density)
pins on every part: 4 V- (power), 8 V+ (power)
part A pins: 1 OUTA (out), 2 INA- (in), 3 INA+ (in)
part B pins: 5 INB+ (in), 6 INB- (in), 7 OUTB (out)

## LMV393M/NOPB
designator U?
Dual General Purpose, Low Voltage, Tiny Pack Comparator, 8-pin Narrow SOIC, Pb-Free; PartNumber: LMV393M/NOPB; Manufacturer: National Semiconductor; PackageTopMarking: NSZXTT*LMV*393M; PowerWise: Y; CompType: Amplifiers; DatasheetVersion: May-2007; PackageVersion: revM, May-2009; PackageReference: M08A; PackageDescription: SOIC Narrow, 4.9 x 3.9 x 1.45mm, 8 Lead, 1.27mm Pitch; RoHS: Y; PinCount: 8; High-Reliability: Y; Code_JEDEC: MS-012-AA; Code_IPC: SOIC127P600-8; ComponentLink1Description: Manufacturer URL; ComponentLink1URL: http://www.national.com/; ComponentLink2Description: LMV393 Datasheet; ComponentLink2URL: http://www.national.com/ds/LM/LMV393.pdf; ComponentLink3Description: LMV393 Web Page; ComponentLink3URL: http://www.national.com/pf/LM/LMV393.html; ComponentLink4Description: M08A Package Page; ComponentLink4URL: http://www.national.com/packaging/folders/m08a.html
footprint M08A_N (SOIC, 8-Leads, Body 4.9x3.9mm, Pitch 1.27mm, IPC Medium Density)
footprint M08A_L (SOIC, 8-Leads, Body 4.9x3.9mm, Pitch 1.27mm, IPC High Density)
footprint M08A_M (SOIC, 8-Leads, Body 4.9x3.9mm, Pitch 1.27mm, IPC Low Density)
pins on every part: 4 V- (power), 8 V+ (power)
part A pins: 1 OUTA (out), 2 INA- (in), 3 INA+ (in)
part B pins: 5 INB+ (in), 6 INB- (in), 7 OUTB (out)

## LMV393MM
designator U?
Dual General Purpose, Low Voltage, Tiny Pack Comparator, 8-pin Mini SOIC; PartNumber: LMV393MM; Manufacturer: National Semiconductor; PackageTopMarking: ZXTT*V393; PowerWise: Y; CompType: Amplifiers; DatasheetVersion: May-2007; PackageVersion: revF, Apr-2008; PackageReference: MUA08A; PackageDescription: MINI SOIC, .118 x .118 x .034in, 8 Lead, .0256in Pitch; RoHS: N; PinCount: 8; High-Reliability: Y; Code_JEDEC: MO-187-AA; ComponentLink1Description: Manufacturer URL; ComponentLink1URL: http://www.national.com/; ComponentLink2Description: LMV393 Datasheet; ComponentLink2URL: http://www.national.com/ds/LM/LMV393.pdf; ComponentLink3Description: LMV393 Web Page; ComponentLink3URL: http://www.national.com/pf/LM/LMV393.html; ComponentLink4Description: MUA08A Package Page; ComponentLink4URL: http://www.national.com/packaging/folders/mua08a.html
footprint MUA08A_N (TSOP, 8-Leads, Body 3x3mm, Pitch 0.65mm, IPC Medium Density)
footprint MUA08A_L (TSOP, 8-Leads, Body 3x3mm, Pitch 0.65mm, IPC High Density)
footprint MUA08A_M (TSOP, 8-Leads, Body 3x3mm, Pitch 0.65mm, IPC Low Density)
pins on every part: 4 V- (power), 8 V+ (power)
part A pins: 1 OUTA (out), 2 INA- (in), 3 INA+ (in)
part B pins: 5 INB+ (in), 6 INB- (in), 7 OUTB (out)

## LMV393MM/NOPB
designator U?
Dual General Purpose, Low Voltage, Tiny Pack Comparator, 8-pin Mini SOIC, Pb-Free; PartNumber: LMV393MM/NOPB; Manufacturer: National Semiconductor; PackageTopMarking: ZXTT*V393; PowerWise: Y; CompType: Amplifiers; DatasheetVersion: May-2007; PackageVersion: revF, Apr-2008; PackageReference: MUA08A; PackageDescription: MINI SOIC, .118 x .118 x .034in, 8 Lead, .0256in Pitch; RoHS: Y; PinCount: 8; High-Reliability: Y; Code_JEDEC: MO-187-AA; ComponentLink1Description: Manufacturer URL; ComponentLink1URL: http://www.national.com/; ComponentLink2Description: LMV393 Datasheet; ComponentLink2URL: http://www.national.com/ds/LM/LMV393.pdf; ComponentLink3Description: LMV393 Web Page; ComponentLink3URL: http://www.national.com/pf/LM/LMV393.html; ComponentLink4Description: MUA08A Package Page; ComponentLink4URL: http://www.national.com/packaging/folders/mua08a.html
footprint MUA08A_N (TSOP, 8-Leads, Body 3x3mm, Pitch 0.65mm, IPC Medium Density)
footprint MUA08A_L (TSOP, 8-Leads, Body 3x3mm, Pitch 0.65mm, IPC High Density)
footprint MUA08A_M (TSOP, 8-Leads, Body 3x3mm, Pitch 0.65mm, IPC Low Density)
pins on every part: 4 V- (power), 8 V+ (power)
part A pins: 1 OUTA (out), 2 INA- (in), 3 INA+ (in)
part B pins: 5 INB+ (in), 6 INB- (in), 7 OUTB (out)

## LMV551MF
designator U?
3 MHz, Micropower RRO Amplifier, 5-pin SOT-23; PartNumber: LMV551MF; Manufacturer: National Semiconductor; PackageTopMarking: AF3A*XTT; PowerWise: N; CompType: Amplifiers; High-Reliability: Y; DatasheetVersion: Oct-2008; PackageVersion: revD, Aug-2008; PackageReference: MF05A; PackageDescription: Molded SOT-23, .115 x .063 x .040 in Body, 5 Lead, .0375 in Pitch; RoHS: Y; PinCount: 5; ComponentLink1Description: Manufacturer URL; ComponentLink1URL: http://www.national.com/; ComponentLink2Description: LMV551 Datasheet; ComponentLink2URL: http://www.national.com/ds/LM/LMV551.pdf; ComponentLink3Description: LMV551 Web Page; ComponentLink3URL: http://www.national.com/pf/LM/LMV551.html; ComponentLink4Description: MF05A Package Page; ComponentLink4URL: http://www.national.com/packaging/folders/mf05a.html
footprint MF05A_N (SOT23, 5-Leads, Body 2.9x1.6mm, Pitch 0.95mm, Lead Span 2.8mm, IPC Medium Density)
footprint MF05A_L (SOT23, 5-Leads, Body 2.9x1.6mm, Pitch 0.95mm, Lead Span 2.8mm, IPC High Density)
footprint MF05A_M (SOT23, 5-Leads, Body 2.9x1.6mm, Pitch 0.95mm, Lead Span 2.8mm, IPC Low Density)
pins: 1 OUT (out), 2 V- (power), 3 IN+ (in), 4 IN- (in), 5 V+ (power)

## LMV551MF/NOPB
designator U?
3 MHz, Micropower RRO Amplifier, 5-pin SOT-23, Pb-Free; PartNumber: LMV551MF/NOPB; Manufacturer: National Semiconductor; PackageTopMarking: AF3A*XTT; PowerWise: N; CompType: Amplifiers; High-Reliability: Y; DatasheetVersion: Oct-2008; PackageVersion: revD, Aug-2008; PackageReference: MF05A; PackageDescription: Molded SOT-23, .115 x .063 x .040 in Body, 5 Lead, .0375 in Pitch; RoHS: Y; PinCount: 5; ComponentLink1Description: Manufacturer URL; ComponentLink1URL: http://www.national.com/; ComponentLink2Description: LMV551 Datasheet; ComponentLink2URL: http://www.national.com/ds/LM/LMV551.pdf; ComponentLink3Description: LMV551 Web Page; ComponentLink3URL: http://www.national.com/pf/LM/LMV551.html; ComponentLink4Description: MF05A Package Page; ComponentLink4URL: http://www.national.com/packaging/folders/mf05a.html
footprint MF05A_N (SOT23, 5-Leads, Body 2.9x1.6mm, Pitch 0.95mm, Lead Span 2.8mm, IPC Medium Density)
footprint MF05A_L (SOT23, 5-Leads, Body 2.9x1.6mm, Pitch 0.95mm, Lead Span 2.8mm, IPC High Density)
footprint MF05A_M (SOT23, 5-Leads, Body 2.9x1.6mm, Pitch 0.95mm, Lead Span 2.8mm, IPC Low Density)
pins: 1 OUT (out), 2 V- (power), 3 IN+ (in), 4 IN- (in), 5 V+ (power)

## LMV551MFX/NOPB
designator U?
3 MHz, Micropower RRO Amplifier, 5-pin SOT-23, Pb-Free; PartNumber: LMV551MFX/NOPB; Manufacturer: National Semiconductor; PackageTopMarking: AF3A*XTT; PowerWise: N; CompType: Amplifiers; High-Reliability: Y; DatasheetVersion: Oct-2008; PackageVersion: revD, Aug-2008; PackageReference: MF05A; PackageDescription: Molded SOT-23, .115 x .063 x .040 in Body, 5 Lead, .0375 in Pitch; RoHS: Y; PinCount: 5; ComponentLink1Description: Manufacturer URL; ComponentLink1URL: http://www.national.com/; ComponentLink2Description: LMV551 Datasheet; ComponentLink2URL: http://www.national.com/ds/LM/LMV551.pdf; ComponentLink3Description: LMV551 Web Page; ComponentLink3URL: http://www.national.com/pf/LM/LMV551.html; ComponentLink4Description: MF05A Package Page; ComponentLink4URL: http://www.national.com/packaging/folders/mf05a.html
footprint MF05A_N (SOT23, 5-Leads, Body 2.9x1.6mm, Pitch 0.95mm, Lead Span 2.8mm, IPC Medium Density)
footprint MF05A_L (SOT23, 5-Leads, Body 2.9x1.6mm, Pitch 0.95mm, Lead Span 2.8mm, IPC High Density)
footprint MF05A_M (SOT23, 5-Leads, Body 2.9x1.6mm, Pitch 0.95mm, Lead Span 2.8mm, IPC Low Density)
pins: 1 OUT (out), 2 V- (power), 3 IN+ (in), 4 IN- (in), 5 V+ (power)

## LMV551MG
designator U?
3 MHz, Micropower RRO Amplifier, 5-pin SC-70; PartNumber: LMV551MG; Manufacturer: National Semiconductor; PackageTopMarking: A94*XTT; PowerWise: N; CompType: Amplifiers; High-Reliability: Y; DatasheetVersion: Oct-2008; PackageVersion: revD, Jun-2007; PackageReference: MAA05A; PackageDescription: Molded SC-70, 2 x 1.25 x .9mm, 5 Lead, 0.65mm Pitch; RoHS: Y; PinCount: 5; Code_JEITA: SC-88A; Code_JEDEC: MO-203-AA; Code_IPC: SOT353-5; ComponentLink1Description: Manufacturer URL; ComponentLink1URL: http://www.national.com/; ComponentLink2Description: LMV551 Datasheet; ComponentLink2URL: http://www.national.com/ds/LM/LMV551.pdf; ComponentLink3Description: LMV551 Web Page; ComponentLink3URL: http://www.national.com/pf/LM/LMV551.html; ComponentLink4Description: MAA05A Package Page; ComponentLink4URL: http://www.national.com/packaging/folders/maa05a.html
footprint MAA05A_N (SOT353, 5-Leads, Body 2x1.3mm, Pitch 0.65mm, Lead Span 2.1mm, IPC Medium Density)
footprint MAA05A_L (SOT353, 5-Leads, Body 2x1.3mm, Pitch 0.65mm, Lead Span 2.1mm, IPC High Density)
footprint MAA05A_M (SOT353, 5-Leads, Body 2x1.3mm, Pitch 0.65mm, Lead Span 2.1mm, IPC Low Density)
pins: 1 IN+ (in), 2 V- (power), 3 IN- (in), 4 OUT (out), 5 V+ (power)

## LMV551MG/NOPB
designator U?
3 MHz, Micropower RRO Amplifier, 5-pin SC-70, Pb-Free; PartNumber: LMV551MG/NOPB; Manufacturer: National Semiconductor; PackageTopMarking: A94*XTT; PowerWise: N; CompType: Amplifiers; High-Reliability: Y; DatasheetVersion: Oct-2008; PackageVersion: revD, Jun-2007; PackageReference: MAA05A; PackageDescription: Molded SC-70, 2 x 1.25 x .9mm, 5 Lead, 0.65mm Pitch; RoHS: Y; PinCount: 5; Code_JEITA: SC-88A; Code_JEDEC: MO-203-AA; Code_IPC: SOT353-5; ComponentLink1Description: Manufacturer URL; ComponentLink1URL: http://www.national.com/; ComponentLink2Description: LMV551 Datasheet; ComponentLink2URL: http://www.national.com/ds/LM/LMV551.pdf; ComponentLink3Description: LMV551 Web Page; ComponentLink3URL: http://www.national.com/pf/LM/LMV551.html; ComponentLink4Description: MAA05A Package Page; ComponentLink4URL: http://www.national.com/packaging/folders/maa05a.html
footprint MAA05A_N (SOT353, 5-Leads, Body 2x1.3mm, Pitch 0.65mm, Lead Span 2.1mm, IPC Medium Density)
footprint MAA05A_L (SOT353, 5-Leads, Body 2x1.3mm, Pitch 0.65mm, Lead Span 2.1mm, IPC High Density)
footprint MAA05A_M (SOT353, 5-Leads, Body 2x1.3mm, Pitch 0.65mm, Lead Span 2.1mm, IPC Low Density)
pins: 1 IN+ (in), 2 V- (power), 3 IN- (in), 4 OUT (out), 5 V+ (power)

## LMV551MGX/NOPB
designator U?
3 MHz, Micropower RRO Amplifier, 5-pin SC-70, Pb-Free; PartNumber: LMV551MGX/NOPB; Manufacturer: National Semiconductor; PackageTopMarking: A94*XTT; PowerWise: N; CompType: Amplifiers; High-Reliability: Y; DatasheetVersion: Oct-2008; PackageVersion: revD, Jun-2007; PackageReference: MAA05A; PackageDescription: Molded SC-70, 2 x 1.25 x .9mm, 5 Lead, 0.65mm Pitch; RoHS: Y; PinCount: 5; Code_JEITA: SC-88A; Code_JEDEC: MO-203-AA; Code_IPC: SOT353-5; ComponentLink1Description: Manufacturer URL; ComponentLink1URL: http://www.national.com/; ComponentLink2Description: LMV551 Datasheet; ComponentLink2URL: http://www.national.com/ds/LM/LMV551.pdf; ComponentLink3Description: LMV551 Web Page; ComponentLink3URL: http://www.national.com/pf/LM/LMV551.html; ComponentLink4Description: MAA05A Package Page; ComponentLink4URL: http://www.national.com/packaging/folders/maa05a.html
footprint MAA05A_N (SOT353, 5-Leads, Body 2x1.3mm, Pitch 0.65mm, Lead Span 2.1mm, IPC Medium Density)
footprint MAA05A_L (SOT353, 5-Leads, Body 2x1.3mm, Pitch 0.65mm, Lead Span 2.1mm, IPC High Density)
footprint MAA05A_M (SOT353, 5-Leads, Body 2x1.3mm, Pitch 0.65mm, Lead Span 2.1mm, IPC Low Density)
pins: 1 IN+ (in), 2 V- (power), 3 IN- (in), 4 OUT (out), 5 V+ (power)

## LMV552MM
designator U?
3 MHz, Micropower RRO Amplifier, 8-pin Mini SOIC; PartNumber: LMV552MM; Manufacturer: National Semiconductor; PackageTopMarking: ZXTT*AH3A; PowerWise: N; CompType: Amplifiers; High-Reliability: Y; DatasheetVersion: Oct-2008; PackageVersion: revF, Apr-2008; PackageReference: MUA08A; PackageDescription: MINI SOIC, .118 x .118 x .034in, 8 Lead, .0256in Pitch; RoHS: Y; PinCount: 8; Code_JEDEC: MO-187-AA; ComponentLink1Description: Manufacturer URL; ComponentLink1URL: http://www.national.com/; ComponentLink2Description: LMV552 Datasheet; ComponentLink2URL: http://www.national.com/ds/LM/LMV552.pdf; ComponentLink3Description: LMV552 Web Page; ComponentLink3URL: http://www.national.com/pf/LM/LMV552.html; ComponentLink4Description: MUA08A Package Page; ComponentLink4URL: http://www.national.com/packaging/folders/mua08a.html
footprint MUA08A_N (TSOP, 8-Leads, Body 3x3mm, Pitch 0.65mm, IPC Medium Density)
footprint MUA08A_L (TSOP, 8-Leads, Body 3x3mm, Pitch 0.65mm, IPC High Density)
footprint MUA08A_M (TSOP, 8-Leads, Body 3x3mm, Pitch 0.65mm, IPC Low Density)
pins on every part: 4 V- (power), 8 V+ (power)
part A pins: 1 OUTA (out), 2 INA- (in), 3 INA+ (in)
part B pins: 5 INB+ (in), 6 INB- (in), 7 OUTB (out)

## LMV552MM/NOPB
designator U?
3 MHz, Micropower RRO Amplifier, 8-pin Mini SOIC, Pb-Free; PartNumber: LMV552MM/NOPB; Manufacturer: National Semiconductor; PackageTopMarking: ZXTT*AH3A; PowerWise: N; CompType: Amplifiers; High-Reliability: Y; DatasheetVersion: Oct-2008; PackageVersion: revF, Apr-2008; PackageReference: MUA08A; PackageDescription: MINI SOIC, .118 x .118 x .034in, 8 Lead, .0256in Pitch; RoHS: Y; PinCount: 8; Code_JEDEC: MO-187-AA; ComponentLink1Description: Manufacturer URL; ComponentLink1URL: http://www.national.com/; ComponentLink2Description: LMV552 Datasheet; ComponentLink2URL: http://www.national.com/ds/LM/LMV552.pdf; ComponentLink3Description: LMV552 Web Page; ComponentLink3URL: http://www.national.com/pf/LM/LMV552.html; ComponentLink4Description: MUA08A Package Page; ComponentLink4URL: http://www.national.com/packaging/folders/mua08a.html
footprint MUA08A_N (TSOP, 8-Leads, Body 3x3mm, Pitch 0.65mm, IPC Medium Density)
footprint MUA08A_L (TSOP, 8-Leads, Body 3x3mm, Pitch 0.65mm, IPC High Density)
footprint MUA08A_M (TSOP, 8-Leads, Body 3x3mm, Pitch 0.65mm, IPC Low Density)
pins on every part: 4 V- (power), 8 V+ (power)
part A pins: 1 OUTA (out), 2 INA- (in), 3 INA+ (in)
part B pins: 5 INB+ (in), 6 INB- (in), 7 OUTB (out)

## LMV552MMX/NOPB
designator U?
3 MHz, Micropower RRO Amplifier, 8-pin Mini SOIC, Pb-Free; PartNumber: LMV552MMX/NOPB; Manufacturer: National Semiconductor; PackageTopMarking: ZXTT*AH3A; PowerWise: N; CompType: Amplifiers; High-Reliability: Y; DatasheetVersion: Oct-2008; PackageVersion: revF, Apr-2008; PackageReference: MUA08A; PackageDescription: MINI SOIC, .118 x .118 x .034in, 8 Lead, .0256in Pitch; RoHS: Y; PinCount: 8; Code_JEDEC: MO-187-AA; ComponentLink1Description: Manufacturer URL; ComponentLink1URL: http://www.national.com/; ComponentLink2Description: LMV552 Datasheet; ComponentLink2URL: http://www.national.com/ds/LM/LMV552.pdf; ComponentLink3Description: LMV552 Web Page; ComponentLink3URL: http://www.national.com/pf/LM/LMV552.html; ComponentLink4Description: MUA08A Package Page; ComponentLink4URL: http://www.national.com/packaging/folders/mua08a.html
footprint MUA08A_N (TSOP, 8-Leads, Body 3x3mm, Pitch 0.65mm, IPC Medium Density)
footprint MUA08A_L (TSOP, 8-Leads, Body 3x3mm, Pitch 0.65mm, IPC High Density)
footprint MUA08A_M (TSOP, 8-Leads, Body 3x3mm, Pitch 0.65mm, IPC Low Density)
pins on every part: 4 V- (power), 8 V+ (power)
part A pins: 1 OUTA (out), 2 INA- (in), 3 INA+ (in)
part B pins: 5 INB+ (in), 6 INB- (in), 7 OUTB (out)

## LMV554MT
designator U?
3 MHz, Micropower RRO Amplifier, 14-pin TSSOP; PartNumber: LMV554MT; Manufacturer: National Semiconductor; PackageTopMarking: NSUZXYTT*LMV55*4MT; PowerWise: Y; CompType: Amplifiers; DatasheetVersion: Oct-2008; PackageVersion: revD, Jun-2003; PackageReference: MTC14; PackageDescription: Molded TSSOP, JEDEC, 5 x 4.4 x 0.9mm Body, 14 Lead, 0.65mm Pitch; RoHS: Y; PinCount: 14; High-Reliability: Y; Code_JEDEC: MO-153-AB-1; ComponentLink1Description: Manufacturer URL; ComponentLink1URL: http://www.national.com/; ComponentLink2Description: LMV554 Datasheet; ComponentLink2URL: http://www.national.com/ds/LM/LMV554.pdf; ComponentLink3Description: LMV554 Web Page; ComponentLink3URL: http://www.national.com/pf/LM/LMV554.html; ComponentLink4Description: MTC14 Package Page; ComponentLink4URL: http://www.national.com/packaging/folders/mtc14.html
footprint MTC14_N (TSOP, 14-Leads, Body 5x4.4mm, Pitch 0.65mm, IPC Medium Density)
footprint MTC14_L (TSOP, 14-Leads, Body 5x4.4mm, Pitch 0.65mm, IPC High Density)
footprint MTC14_M (TSOP, 14-Leads, Body 5x4.4mm, Pitch 0.65mm, IPC Low Density)
pins on every part: 4 V+ (power), 11 V- (power)
part A pins: 1 OUTA (out), 2 INA- (in), 3 INA+ (in)
part B pins: 5 INB+ (in), 6 INB- (in), 7 OUTB (out)
part C pins: 8 OUTC (out), 9 INC- (in), 10 INC+ (in)
part D pins: 12 IND+ (in), 13 IND- (in), 14 OUTD (out)

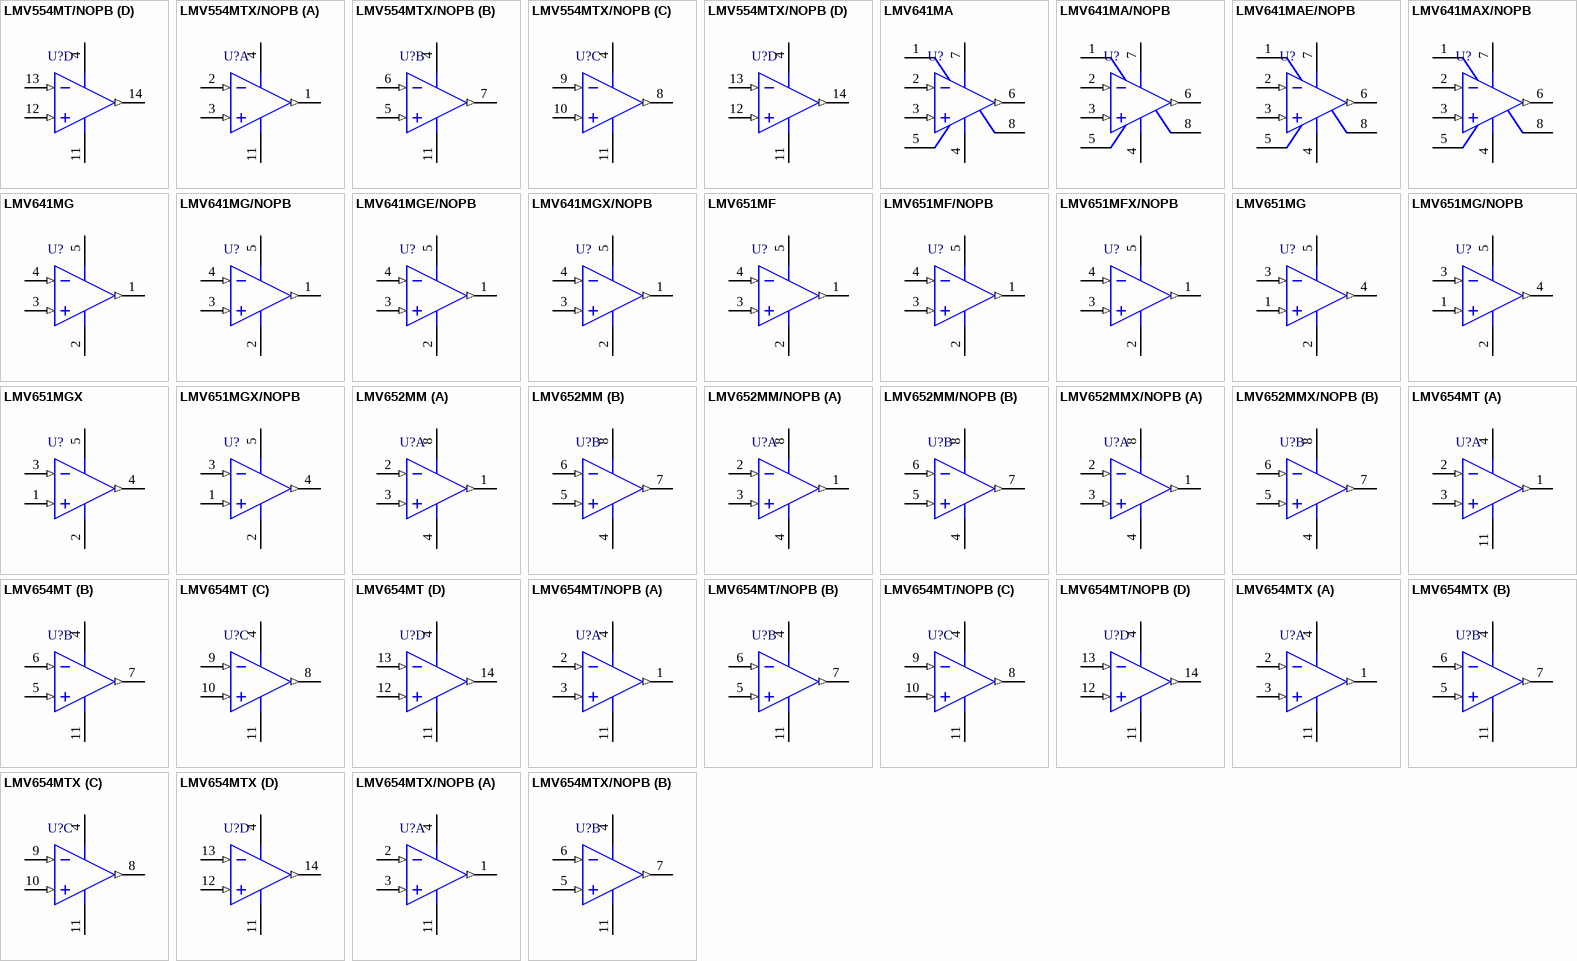
[diagram p69: symbols LMV554MT/NOPB to LMV654MTX/NOPB]